# Altium footprint library input.PcbLib: 11 footprints
Each footprint in its own frame and in the unit in brackets; x right, y up, seen from the top. Pads: shape width x height; smd on the part's side, far side on the other; paste and mask are expansions set on the pad; w line width, h text height; cw(c..) or ccw(c..) is an arc to the next point about the centre after c.
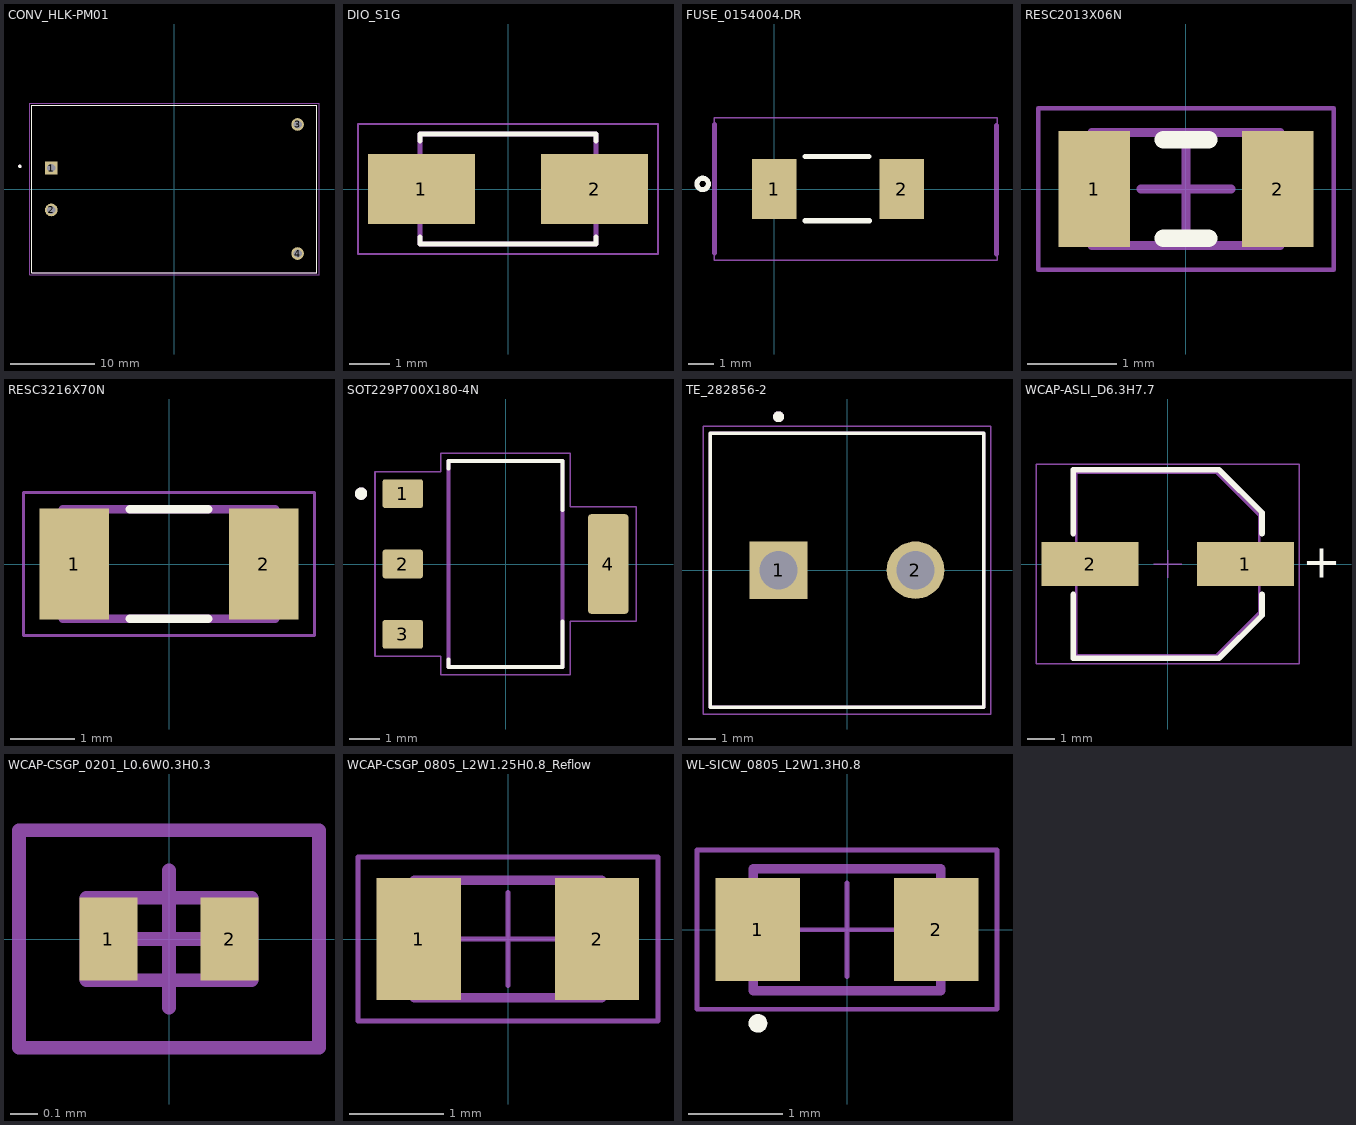
[diagram p0: the footprints below, top view; thin cyan lines are the x and y axes]

## CONV_HLK-PM01 [mm]
height 15
pads (4):
  rect 1.508x1.508 / inner round 1.508 / far side rect 1.508x1.508 hole 1: 1(-14.7,2.5)
  round 1.508 hole 1: 2(-14.7,-2.5) 3(14.7,7.7) 4(14.7,-7.7)
Top Overlay:
  circle w0.2: c-18.45,2.7 r0.1
  lines w0.127: -17,-10 -17,10 17,10 17,-10 -17,-10
Top 3D Body:
  circle w0.2: c-18.45,2.7 r0.1
  lines w0.127: -17,-10 -17,10 17,10 17,-10 -17,-10
Top Courtyard:
  lines w0.05: -17.25,-10.25 -17.25,10.25 17.25,10.25 17.25,-10.25 -17.25,-10.25
3D body "step_temp.STEP": height 15, standoff -5, extent -17,-10.1 17,10.1

## DIO_S1G [mm]
height 2.5
pads (2):
  rect 2.65x1.75 smd: 1(-2.15,0) 2(2.15,0)
Top Overlay:
  lines w0.127: -2.187,-1.195 -2.187,-1.362 2.187,-1.362 2.187,-1.195 ; -2.187,1.195 -2.187,1.362 2.187,1.362 2.187,1.195
Top 3D Body:
  lines w0.127: -2.187,-1.362 2.187,-1.362 2.187,1.362 -2.187,1.362 -2.187,-1.362
Top Courtyard:
  lines w0.05: -3.725,-1.613 -3.725,1.613 3.725,1.613 3.725,-1.613 -3.725,-1.613
3D body "step_temp.STEP": height 2.7, standoff 0, extent -2.6,-1.362 2.6,1.362

## FUSE_0154004.DR [mm]
pads (2):
  rect 1.748x2.347 smd: 1(0,0) 2(5,0)
Top Overlay:
  circle w0.2: c-2.81,0.2 r0.224
  lines w0.2: 1.198,1.279 3.722,1.279 ; 1.206,-1.247 3.743,-1.245
Top 3D Body:
  lines w0.2: -2.342,-2.505 -2.342,2.525 ; 8.718,-2.547 8.718,2.483
Top Courtyard:
  lines w0.05: -2.36,-2.8 8.74,-2.8 8.74,2.8 -2.36,2.8 -2.36,-2.8
3D body "fuse.STEP": height 3.81, standoff 0, extent -1.675,-2.642 8.055,2.388

## RESC2013X06N [mm] "Chip Resistor, 2-Leads, Body 2.05x1.25mm, IPC Medium Density"
height 0.6
pads (2):
  rect 0.8x1.3 smd: 1(-1.025,0) 2(1.025,0)
Top Overlay:
  lines w0.2: -0.25,-0.55 0.25,-0.55 ; -0.25,0.55 0.25,0.55
Top 3D Body:
  lines w0.1: -1.05,-0.63 -1.05,0.63 1.05,0.63 1.05,-0.63 -1.05,-0.63
Top Courtyard:
  lines w0.05: -1.65,-0.9 -1.65,0.9 1.65,0.9 1.65,-0.9 -1.65,-0.9
  lines w0.1: -0.5,0 0.5,0 ; 0,-0.5 0,0.5
3D body: height 0.6, standoff 0, extent -0.69,-0.63 0.69,0.63
3D body: height 0.6, standoff 0, extent -1.05,-0.63 -0.69,0.63
3D body: height 0.6, standoff 0, extent 0.69,-0.63 1.05,0.63

## RESC3216X70N [mm]
pads (2):
  rect 1.08x1.72 smd: 1(-1.47,0) 2(1.47,0)
Top Overlay:
  lines w0.127: -0.61,-0.85 0.61,-0.85 ; -0.61,0.85 0.61,0.85
Top 3D Body:
  lines w0.127: -1.65,-0.85 -1.65,0.85 1.65,0.85 1.65,-0.85 -1.65,-0.85
Top Courtyard:
  lines w0.05: -2.262,-1.112 -2.262,1.112 2.262,1.112 2.262,-1.112 -2.262,-1.112
3D body "FCR1206J10R.STEP": height 0.71, standoff 0.01, extent -1.6,-0.8 1.6,0.8

## SOT229P700X180-4N [mm]
height 1.8
pads (4):
  rrect15% 1.31x0.93 smd: 1(-3.345,2.29) 2(-3.345,0) 3(-3.345,-2.29)
  rrect15% 1.31x3.24 smd: 4(3.345,0)
Top Overlay:
  circle w0.2: c-4.703,2.29 r0.1
  lines w0.127: -1.86,-3.11 -1.86,-3.36 1.86,-3.36 1.86,-1.87 ; -1.86,3.1 -1.86,3.36 1.86,3.36 1.86,1.76
Top 3D Body:
  circle w0.2: c-4.703,2.29 r0.1
  lines w0.127: -1.86,-3.36 1.86,-3.36 1.86,3.36 -1.86,3.36 -1.86,-3.36
Top Courtyard:
  lines w0.05: -4.25,-3.01 -4.25,3.01 -2.11,3.01 -2.11,3.61 2.11,3.61 2.11,1.87 4.25,1.87 4.25,-1.87 2.11,-1.87 2.11,-3.61 -2.11,-3.61 -2.11,-3.01 -4.25,-3.01
3D body "step_temp.STEP": height 1.8, standoff 0, extent -3.499,-3.251 3.499,3.251

## TE_282856-2 [mm]
pads (2):
  rect 2.1x2.1 / inner round 2.1 / far side rect 2.1x2.1 hole 1.4: 1(-2.5,0)
  round 2.1 hole 1.4: 2(2.5,0)
Top Overlay:
  circle w0.2: c-2.5,5.6 r0.1
  lines w0.127: -5,-5 5,-5 5,5 -5,5 -5,-5
Top 3D Body:
  circle w0.2: c-2.5,5.6 r0.1
  lines w0.127: -5,-5 5,-5 5,5 -5,5 -5,-5
Top Courtyard:
  lines w0.05: -5.25,-5.25 5.25,-5.25 5.25,5.25 -5.25,5.25 -5.25,-5.25
3D body "step_temp.STEP": height 19, standoff -3.5, extent -5,-5 5.5,5

## WCAP-ASLI_D6.3H7.7 [mm] "Aluminium Electrolytic V-Chip SMT Capacitors, 6.3x7.7mm"
height 7.7
pads (2):
  rect 3.5x1.6 smd: 1(2.8,0) 2(-2.8,0)
Top Overlay:
  lines w0.2: -3.4,-1.1 -3.4,-3.4 1.85,-3.4 3.4,-1.85 3.4,-1.1 ; -3.4,1.1 -3.4,3.4 1.85,3.4 3.4,1.85 3.4,1.1
  text "+" at 4.85,-0.5 h1.22
Top Component Outline:
  lines w0.1: -3.3,-3.3 -3.3,3.3 1.75,3.3 3.3,1.75 3.3,-1.75 1.75,-3.3 -3.3,-3.3
Top 3D Body:
  lines w0.1: -3.3,-3.3 -3.3,3.3 1.75,3.3 3.3,1.75 3.3,-1.75 1.75,-3.3 -3.3,-3.3
Top Courtyard:
  lines w0.05: -0.5,0 0.5,0 ; 0,-0.5 0,0.5 ; -4.75,-3.6 4.75,-3.6 4.75,3.6 -4.75,3.6 -4.75,-3.6
3D body "6.3x7.7x2.2.stp": height 7.7, standoff 0, extent -3.65,-3.3 3.65,3.3

## WCAP-CSGP_0201_L0.6W0.3H0.3 [mm] "Ceramic Capacitors, body 0.60x0.30mm"
height 0.3
pads (2):
  rect 0.21x0.3 smd: 1(-0.22,0) 2(0.22,0)
Top Component Outline:
  lines w0.05: -0.3,-0.15 0.3,-0.15 0.3,0.15 -0.3,0.15 -0.3,-0.15
Top Courtyard:
  lines w0.05: -0.545,-0.395 0.545,-0.395 0.545,0.395 -0.545,0.395 -0.545,-0.395
Top Component Center:
  lines w0.05: -0.25,0 0.25,0 ; 0,-0.25 0,0.25
3D body "CAPC0603X03N.step": height 0.3, standoff 0, extent -0.3,-0.15 0.3,0.15

## WCAP-CSGP_0805_L2W1.25H0.8_Reflow [mm] "Ceramic Capacitors, body 2x1.25mm"
height 0.9
pads (2):
  rect 0.9x1.3 smd: 1(-0.95,0) 2(0.95,0)
Top Designator:
  text ".Designator" at -3.499,-0.233 h0.7
Top Component Outline:
  lines w0.1: -1,-0.625 1,-0.625 1,0.625 -1,0.625 -1,-0.625
Top Courtyard:
  lines w0.05: -1.6,-0.875 -1.6,0.875 1.6,0.875 1.6,-0.875 -1.6,-0.875
Top Component Center:
  lines w0.05: -0.5,0 0.5,0 ; 0,-0.5 0,0.5
3D body "CAPC2012X08N.step": height 0.8, standoff 0, extent -1,-0.625 1,0.625

## WL-SICW_0805_L2W1.3H0.8 [mm] "SMT Infrared Chip LED Waterclear, body 2x1.3mm"
height 0.8
pads (2):
  rect 0.9x1.1 smd: 1(-0.95,0) 2(0.95,0)
Top Overlay:
  circle w0.1: c-0.95,-1 r0.05
Top Component Outline:
  circle w0.05: c-0.75,-0.4 r0.1
  lines w0.1: -1,-0.65 -1,0.65 1,0.65 1,-0.65 -1,-0.65
Top 3D Body:
  circle w0.05: c-0.75,-0.4 r0.1
  lines w0.1: -1,-0.65 1,-0.65 1,0.65 -1,0.65 -1,-0.65
Top Courtyard:
  lines w0.05: -0.5,0 0.5,0 ; 0,-0.5 0,0.5 ; -1.6,-0.85 -1.6,0.85 1.6,0.85 1.6,-0.85 -1.6,-0.85
3D body "15408085BA400.stp": height 0.8, standoff 0, extent -1,-0.65 1,0.65